# Altium footprint library relay.PcbLib: 40 footprints (part 3 of 3)
Each footprint in its own frame and in the unit in brackets; x right, y up, seen from the top. Pads: shape width x height; smd on the part's side, far side on the other; paste and mask are expansions set on the pad; w line width, h text height; cw(c..) or ccw(c..) is an arc to the next point about the centre after c.
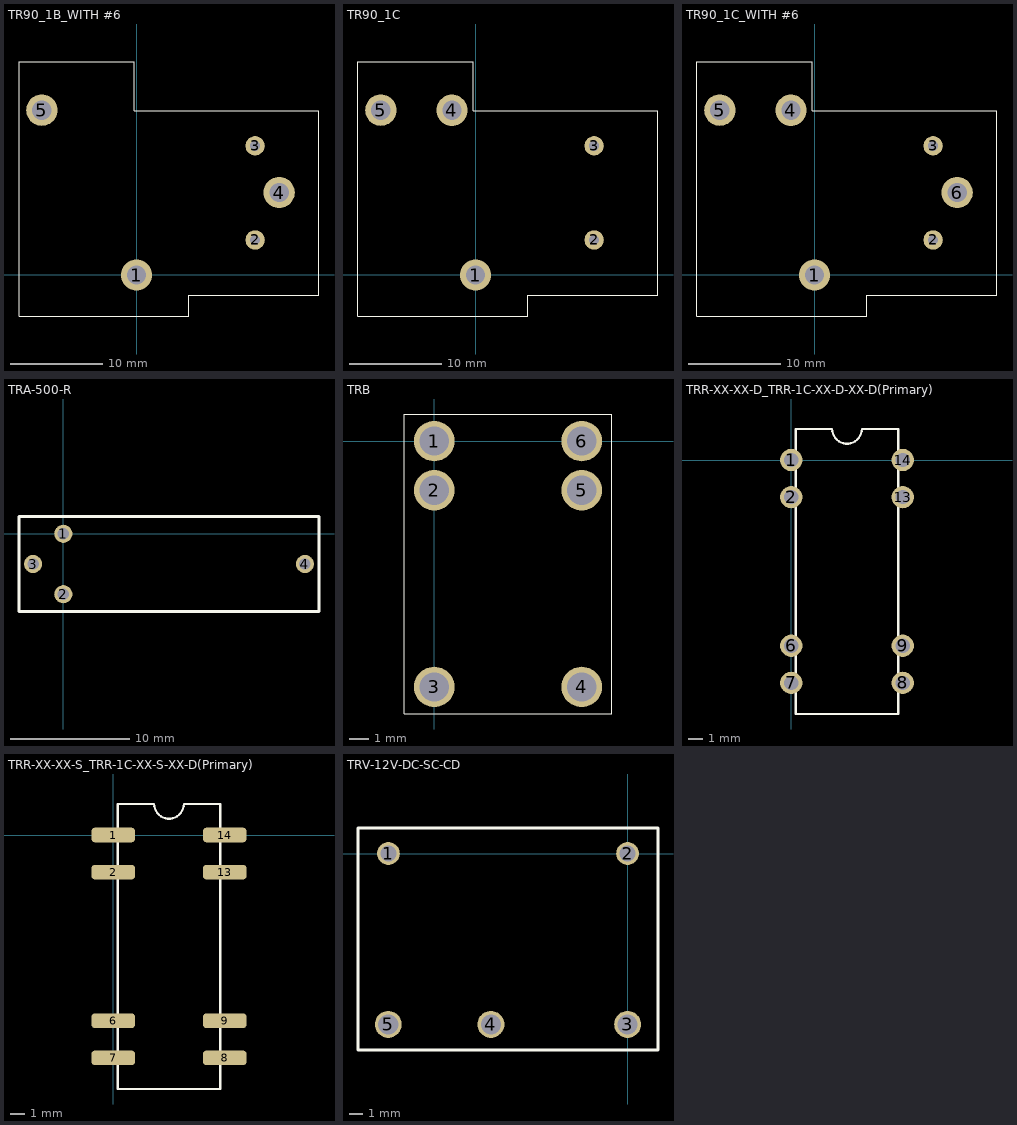
[diagram p2: the footprints below, top view; thin cyan lines are the x and y axes]

## TR90_1B_WITH #6 [mm]
pads (5):
  round 3.4 hole 2.1: 1(0,-0.01) 4(15.45,8.93) 5(-10.25,17.85)
  round 2.1 hole 1.1: 2(12.85,3.79) 3(12.85,13.99)
Top Overlay:
  lines w0.1: -12.73,-4.49 -12.73,23.11 -0.23,23.11 -0.23,17.81 19.77,17.81 19.77,-2.19 5.67,-2.19 5.67,-4.49 -12.73,-4.49

## TR90_1C [mm]
pads (5):
  round 3.4 hole 2.1: 1(-0.01,-0.04) 4(-2.56,17.81) 5(-10.26,17.82)
  round 2.1 hole 1.1: 2(12.84,3.76) 3(12.84,13.96)
Top Overlay:
  lines w0.1: -12.74,-4.52 -12.74,23.08 -0.24,23.08 -0.24,17.78 19.76,17.78 19.76,-2.22 5.66,-2.22 5.66,-4.52 -12.74,-4.52

## TR90_1C_WITH #6 [mm]
pads (6):
  round 3.4 hole 2.1: 1(-0.01,-0.04) 4(-2.56,17.81) 5(-10.26,17.82) 6(15.44,8.9)
  round 2.1 hole 1.1: 2(12.84,3.76) 3(12.84,13.96)
Top Overlay:
  lines w0.1: -12.74,-4.52 -12.74,23.08 -0.24,23.08 -0.24,17.78 19.76,17.78 19.76,-2.22 5.66,-2.22 5.66,-4.52 -12.74,-4.52

## TRA-500-R [mil]
pads (4):
  round 60 hole 38: 1(0,0) 2(0,-200) 3(-100,-100) 4(799.21,-100)
Top Overlay:
  lines w10: -146.46,-257.48 845.67,-257.48 845.67,57.48 -146.46,57.48 -146.46,-257.48

## TRB [mm]
pads (6):
  round 2.1 hole 1.5: 1(0,0) 2(0,-2.54) 3(0,-12.7) 4(7.62,-12.7) 5(7.62,-2.54) 6(7.62,0)
Top Overlay:
  lines w0.025: -1.54,-14.1 9.16,-14.1 9.16,1.4 -1.54,1.4 -1.54,-14.1

## TRR-XX-XX-D_TRR-1C-XX-D-XX-D(Primary) [mil]
pads (8):
  round 60 hole 38: 1(0,0) 2(0,-100) 6(0,-500) 7(0,-600) 8(300,-600) 9(300,-500) 13(300,-100) 14(300,0)
Top Overlay:
  lines w5.91: 12.2,-683.86 12.2,83.86 110,83.86 ccw(c150,83.86) 190,83.86 287.8,83.86 287.8,-683.86 12.2,-683.86

## TRR-XX-XX-S_TRR-1C-XX-S-XX-D(Primary) [mm]
pads (8):
  rrect50% 3x1 smd: 1(0,0) 2(0,-2.54) 6(0,-12.7) 7(0,-15.24) 8(7.62,-15.24) 9(7.62,-12.7) 13(7.62,-2.54) 14(7.62,0)
Top Overlay:
  lines w0.15: 0.31,-17.37 0.31,2.13 2.794,2.13 ccw(c3.81,2.13) 4.826,2.13 7.31,2.13 7.31,-17.37 0.31,-17.37

## TRV-12V-DC-SC-CD [mm]
pads (5):
  round 1.7 hole 1.2: 1(-17.78,0) 2(0,0)
  round 2 hole 1.5: 3(0,-12.7) 4(-10.16,-12.7) 5(-17.79,-12.7)
Top Overlay:
  lines w0.254: -20.04,-14.6 2.26,-14.6 2.26,1.9 -20.04,1.9 -20.04,-14.6